# Altium integrated library 691102710002.IntLib: 1 symbol
Pins are listed as number, name and electrical type; pins without a type are passive.

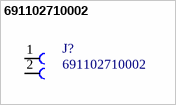
[diagram p0: symbol 691102710002]

## 691102710002
designator J?
102 Series 5mm Pitch Straight, PCB Terminal Block, Through Hole, 2 Way; MF: Wurth Electronics; Price: 0.62 USD; SnapEDA_Link: https://www.snapeda.com/parts/691102710002/Wurth%20Electronics%20Inc/view-part/?ref=snap; Availability: Good; MP: 691102710002; Package: None; Value: *
footprint 691102710002
pins: 1, 2